# Altium footprint library Lib Marius.PcbLib: 393 footprints (part 18 of 25)
Each footprint in its own frame and in the unit in brackets; x right, y up, seen from the top. Pads: shape width x height; smd on the part's side, far side on the other; paste and mask are expansions set on the pad; w line width, h text height; cw(c..) or ccw(c..) is an arc to the next point about the centre after c.
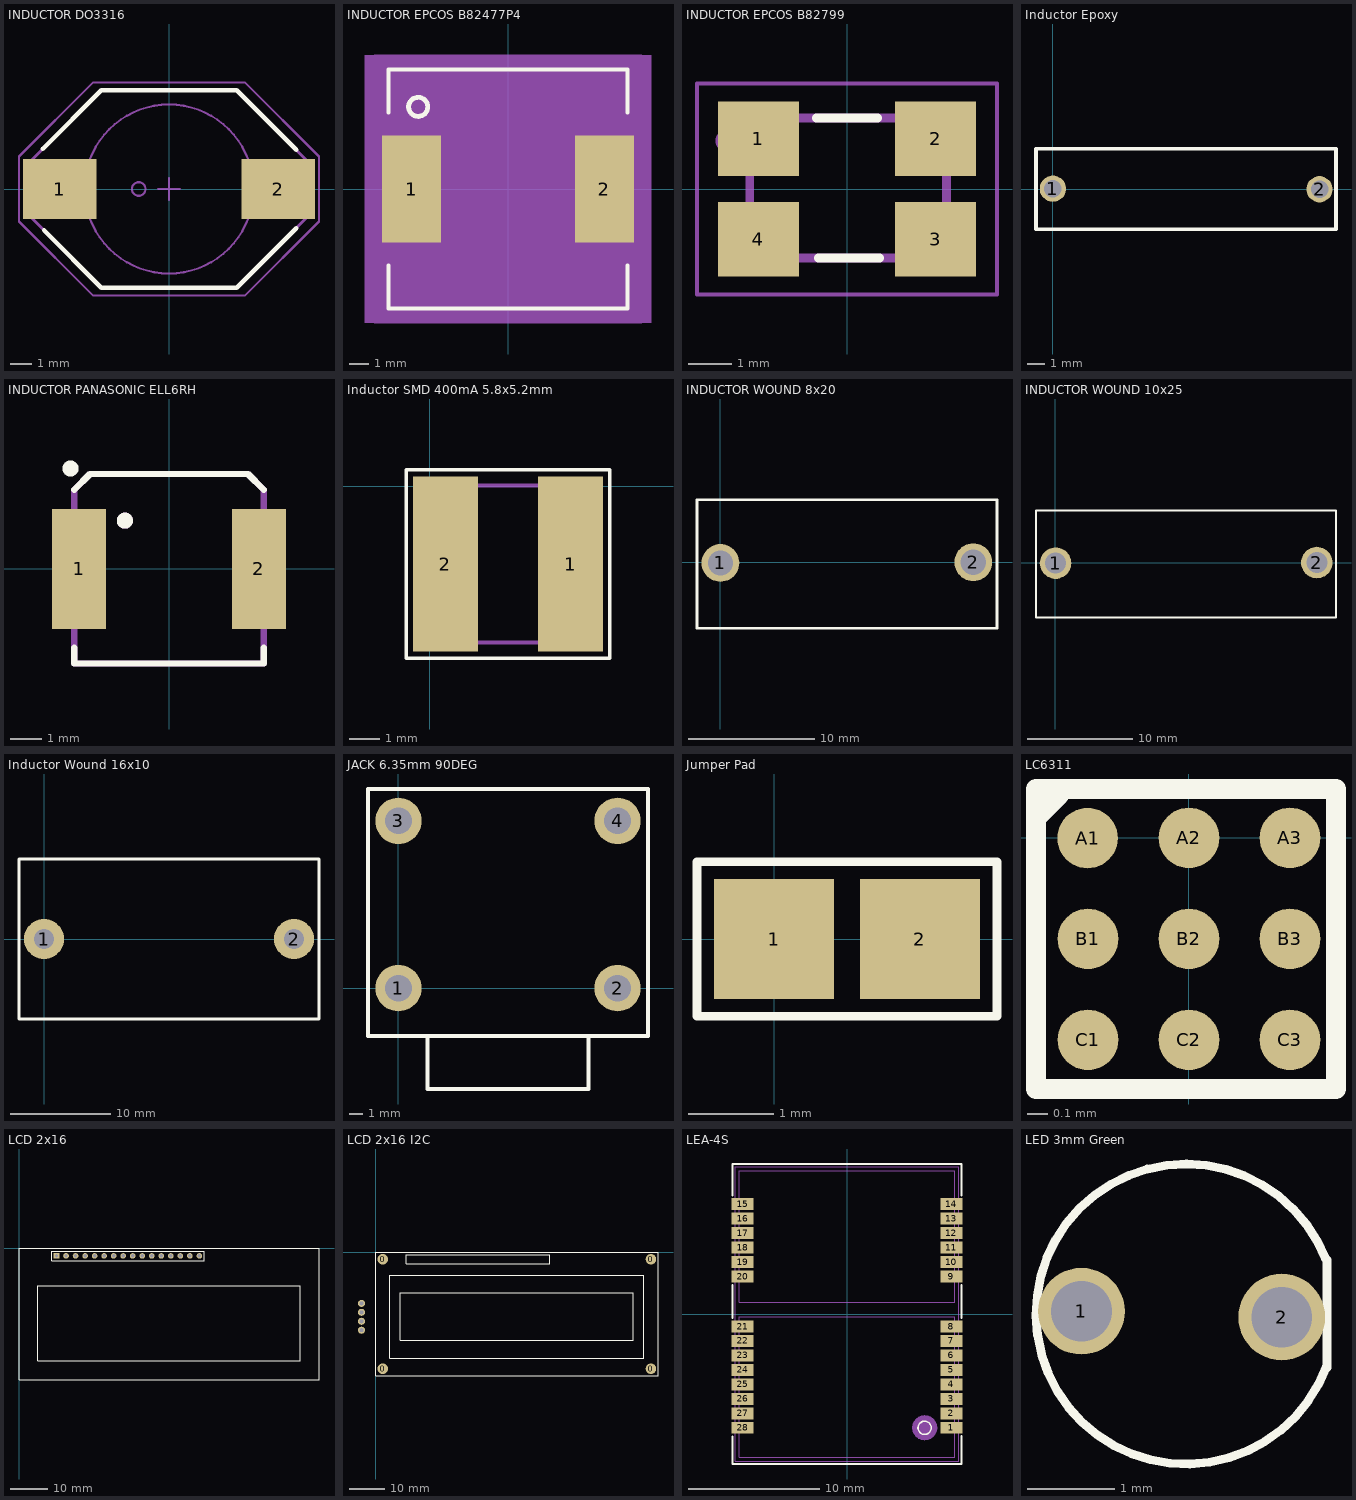
[diagram p17: the footprints below, top view; thin cyan lines are the x and y axes]

## INDUCTOR DO3316 [mm] "Power Inductor DO3316 Coilcraft"
height 1.75
pads (2):
  rect 3.42x2.79 smd: 1(-5.095,0) 2(5.095,0)
Top Overlay:
  lines w0.2: -5.874,1.873 -3.151,4.596 -2.198,4.596 3.151,4.596 5.924,1.823 ; -5.824,-1.923 -3.151,-4.596 -2.198,-4.596 2.198,-4.596 3.151,-4.596 5.924,-1.823
Mechanical 13:
  circle w0.1: c0,0 r3.937
  lines w0.102: -1.73,0 ccw(c-1.412,0) -1.412,-0.318 ccw(c-1.412,0) -1.095,0 ccw(c-1.412,0) -1.412,0.318 ccw(c-1.412,0) -1.73,0
  lines w0.127: -6.477,-1.27 -3.151,-4.596 3.151,-4.596 6.477,-1.27 6.477,1.27 3.151,4.596 -3.151,4.596 -6.477,1.27 -6.477,-1.27
Mechanical 15:
  lines w0.1: -0.5,0 0.5,0 ; 0,-0.5 0,0.5 ; -6.985,-1.515 -3.547,-4.953 3.547,-4.953 6.985,-1.515 6.985,1.515 3.547,4.953 -3.547,4.953 -6.985,1.515 -6.985,-1.515
3D body "SW3dPS-Inductor SMT DO3316.step": height 5.37, standoff 0, extent -6.605,-4.7 6.605,4.7

## INDUCTOR EPCOS B82477P4 [mm] "Epcos SMT Power inductor"
height 8.5
pads (2):
  rect 3.1x5.6 smd: 1(-5.05,0) 2(5.05,0)
Top Overlay:
  circle w0.254: c-4.7,4.3 r0.5
  lines w0.2: -6.25,-4 -6.25,-6.25 6.25,-6.25 6.25,-4 ; -6.25,4 -6.25,6.25 6.25,6.25 6.25,4
Mechanical 13:
  lines w0.2: -6.25,-6.25 -6.25,6.25 6.25,6.25 6.25,-6.25 -6.25,-6.25
Mechanical 15:
  lines w0.1: -7,-7 -7,7 7,7 7,-7 -7,-7
Mechanical 16:
  pour cut-out: -7.5,-7 7.5,-7 7.5,7 -7.5,7
3D body "epcos_B82477P4.STEP": height 8.53, standoff 0.03, extent -6.25,-6.25 6.25,6.25

## INDUCTOR EPCOS B82799 [mm] "Dataline Choke, 2x11uH 30% SMD"
height 3.2
pads (4):
  rect 1.85x1.7 smd: 1(-2.025,1.15) 2(2.025,1.15) 3(2.025,-1.15) 4(-2.025,-1.15)
Top Overlay:
  lines w0.2: -0.7,1.625 0.7,1.625 ; -0.65,-1.575 0.75,-1.575
Mechanical 13:
  circle w0.254: c-2.775,1.1 r0.106
  lines w0.2: -2.225,-1.575 -2.225,1.625 2.275,1.625 2.275,-1.575 -2.225,-1.575
Mechanical 15:
  lines w0.1: -3.429,-2.413 3.429,-2.413 3.429,2.413 -3.429,2.413 -3.429,-2.413
3D body "epcos-EIA1812.STEP": height 3.21, standoff 0.01, extent -2.225,-1.575 2.275,1.625

## Inductor Epoxy [mm] "Inductor 3A"
height 6
pads (2):
  round 1.5 hole 1: 1(0,0.032) 2(15.218,-0.001)
Top Overlay:
  lines w0.2: -0.965,-2.275 -0.965,2.303 16.158,2.303 16.158,-2.275 -0.965,-2.275
3D body "Res 2W.STEP": height 5, standoff -3, extent -0.408,-1.968 15.632,2.032

## INDUCTOR PANASONIC ELL6RH [mm] "Power Inductor ELL6RH151M"
height 2.5
pads (2):
  rect 1.7x3.8 smd: 1(-2.85,0) 2(2.85,0)
Top Overlay:
  circle w0.254: c-1.397,1.524 r0.127
  circle w0.254: c-3.119,3.175 r0.127
  lines w0.2: -3,-2.5 -3,-3 3,-3 3,-2.5 ; -3,2.5 -2.5,3 2.5,3 3,2.5
Mechanical 13:
  circle w0.254: c-1.397,1.524 r0.127
  lines w0.2: -3,-3 3,-3 ; -3,2.5 -2.5,3 ; 3,2.5 2.5,3 ; -2.5,3 2.5,3 ; -2.5,3 2.5,3
  lines w0.201: -3,-3 -3,2.5 ; 3,-3 3,2.5
3D body "PANASONIC_ELL6RH.STEP": height 2.54, standoff 0.03, extent -3,-3 3.4,3

## Inductor SMD 400mA 5.8x5.2mm [mm]
pads (2):
  rect 2.15x5.8 smd mask+0: 1(4.675,-2.575) 2(0.525,-2.575)
Top Overlay:
  lines w0.127: -0.775,-5.7 -0.775,0.55 5.975,0.55 5.975,-5.7 -0.775,-5.7
Mechanical 13:
  lines w0.127: 0,-3.875 ccw(c2.7,-2.475) 1.3,-5.175 3.9,-5.175 ccw(c2.72,-2.695) 5.2,-3.875 5.2,-3.075 cw(c5.134,-2.641) 4.7,-2.575 cw(c5.114,-2.489) 5.2,-2.075 5.2,-1.275 ccw(c2.668,-2.507) 3.9,0.025 1.3,0.025 ccw(c2.7,-2.675) 0,-1.275 0,-2.075 cw(c0.093,-2.482) 0.5,-2.575 cw(c0.056,-2.631) 0,-3.075 0,-3.875
3D body "scd-0501.stp": height 2.1, standoff 0, extent -0.297,-5.172 5.502,0.028

## INDUCTOR WOUND 8x20 [mm] "Inductor 10 Turns"
height 6
pads (2):
  round 3 hole 2: 1(0.026,-0.034) 2(20.049,0.02)
Top Overlay:
  lines w0.2: -1.828,-5.19 21.925,-5.19 21.925,4.952 -1.828,4.952 -1.828,-5.19
3D body: height 3, standoff -2, extent 19.057,-0.978 21.049,1.018
3D body: height 3, standoff -2, extent -0.966,-1.032 1.026,0.964
3D body "Inductor Wound 8x20.stp": height 8.95, standoff 1.05, extent 0.048,-3.93 20.048,3.97

## INDUCTOR WOUND 10x25 [mm] "Inductor 10 Turns"
height 6
pads (2):
  round 3 hole 2: 1(0.026,-0.034) 2(24.829,0.02)
Top Overlay:
  lines w0.2: -1.828,-5.19 -1.828,4.952 26.639,4.952 26.639,-5.19 -1.828,-5.19
3D body "Inductor Wound 10x25.stp": height 11.87, standoff 2.13, extent -0.171,-4.855 24.829,4.895
3D body: height 3, standoff -2, extent -0.966,-1.032 1.026,0.964
3D body: height 3, standoff -2, extent 23.837,-0.978 25.829,1.018

## Inductor Wound 16x10 [mm] "Inductor Coil"
height 10
pads (2):
  round 4 hole 2: 1(0,0) 2(25,0)
Top Overlay:
  lines w0.254: -2.5,-8 27.5,-8 27.5,8 -2.5,8 -2.5,-8
3D body: height 3, standoff -2, extent -0.992,-0.998 1,0.998
3D body: height 3, standoff -2, extent 24.008,-0.998 26,0.998
3D body "Inductor 16x10.stp": height 17.87, standoff 2.13, extent -0.5,-7.875 24.5,7.875

## JACK 6.35mm 90DEG [mm] "JACK 6.35mm 90DEG"
pads (4):
  round 3.5 hole 2 mask+0: 1(0,0) 2(16.5,0) 3(0,12.6)
  round 3.5 hole 2: 4(16.5,12.6)
Top Overlay:
  lines w0.3: 12.8,-3.6 14.3,-3.6 14.3,-7.6 2.2,-7.6 2.2,-3.6 13,-3.6 ; -2.3,-3.6 -2.3,15 18.8,15 18.8,-3.6 16.8,-3.6 -1.8,-3.6 -2.3,-3.6

## Jumper Pad [mm] "Jumper pads"
height 1.524
pads (2):
  rect 1.4x1.4 smd: 1(0,0) 2(1.7,0)
Top Overlay:
  lines w0.1: -0.9,-0.9 -0.9,0.9 2.6,0.9 2.6,-0.9 -0.9,-0.9

## LC6311 [mm] "Amplifier D Class"
height 0.5
pads (9):
  round 0.3 smd mask+0.05: A1(-0.502,-0.001) A2(0,0) A3(0.5,0) B1(-0.5,-0.5) B2(0,-0.5) B3(0.5,-0.5) C1(-0.5,-1) C2(0,-1) C3(0.5,-1)
Top Overlay:
  lines w0.1: -0.738,0.121 -0.734,0.121 -0.643,0.212 ; -0.757,-1.243 -0.757,0.242 0.728,0.242 0.728,-1.243 -0.757,-1.243
3D body: height 0.35, standoff 0, extent -0.742,-1.242 0.743,0.243

## LCD 2x16 [mm] "LCD 2 x 16"
pads (16):
  rect 1.5x1.5 hole 0.9: 1(10,-2)
  round 1.5 hole 0.9: 2(12.54,-2) 3(15.08,-2) 4(17.62,-2) 5(20.16,-2) 6(22.7,-2) 7(25.24,-2) 8(27.78,-2) 9(30.32,-2) 10(32.86,-2) 11(35.4,-2) 12(37.94,-2) 13(40.48,-2) 14(43.02,-2) 15(45.56,-2) 16(48.1,-2)
Top Overlay:
  lines w0.2: 8.73,-3.27 8.73,-0.73 10.635,-0.73 49.37,-0.73 49.37,-3.27 8.73,-3.27
  lines w0.25: 0,-35 0,0 80,0 80,-35 0,-35 ; 5,-30 5,-10 75,-10 75,-30 5,-30

## LCD 2x16 I2C [mm] "LCD 2 x 16 i2c"
pads (8):
  round 3 all layers, no hole: 0(2,-33) 0(2,-2) 0(78,-33) 0(78,-2)
  round 2 hole 1: 1(-4,-14.48) 2(-4,-17.02) 3(-4,-19.56) 4(-4,-22.1)
Top Overlay:
  lines w0.2: 8.73,-3.27 49.37,-3.27 49.37,-0.73 10.635,-0.73 8.73,-0.73 8.73,-3.27
  lines w0.25: 0,-35 80,-35 80,0 0,0 0,-35 ; 4,-30 76,-30 76,-6.5 4,-6.5 4,-30
  lines w0.254: 7,-25 73,-25 73,-11.5 7,-11.5 7,-25

## LEA-4S [mm]
pads (28):
  rect 1.7x0.9 smd mask+0: 1(7.94,-8.65) 2(7.94,-7.55) 3(7.94,-6.45) 4(7.94,-5.35) 5(7.94,-4.25) 6(7.94,-3.15) 7(7.94,-2.05) 8(7.94,-0.95) 9(7.94,2.85) 10(7.94,3.95) 11(7.94,5.05) 12(7.94,6.15) 13(7.94,7.25) 14(7.94,8.35) 15(-7.94,8.35) 16(-7.94,7.25) 17(-7.94,6.15) 18(-7.94,5.05) 19(-7.94,3.95) 20(-7.94,2.85) 21(-7.94,-0.95) 22(-7.94,-2.05) 23(-7.94,-3.15) 24(-7.94,-4.25) 25(-7.94,-5.35) 26(-7.94,-6.45) 27(-7.94,-7.55) 28(-7.94,-8.65)
Top Overlay:
  circle w0.127: c5.9,-8.65 r0.5
  lines w0.127: -8.7,-9.3 -8.7,-11.4 8.7,-11.4 8.7,-9.275 ; -8.7,-0.3 -8.7,2.2 ; -8.7,9 -8.7,11.4 8.7,11.4 8.7,9 ; 8.7,-0.3 8.7,2.2
Mechanical 13:
  region: 6.127,-7.734 6.143,-7.744 6.161,-7.744 6.356,-7.824 6.369,-7.837 6.387,-7.842 6.554,-7.97 6.564,-7.986 6.58,-7.996 6.708,-8.163 6.713,-8.181 6.726,-8.194 6.806,-8.389 6.806,-8.407 6.816,-8.423 6.843,-8.632 6.838,-8.65 6.843,-8.668 6.816,-8.877 6.806,-8.893 6.806,-8.911 6.726,-9.106 6.713,-9.119 6.708,-9.137 6.58,-9.304 6.564,-9.314 6.554,-9.33 6.387,-9.458 6.369,-9.463 6.356,-9.476 6.161,-9.556 6.143,-9.556 6.127,-9.566 5.918,-9.593 5.9,-9.588 5.882,-9.593 5.673,-9.566 5.657,-9.556 5.639,-9.556 5.444,-9.476 5.431,-9.463 5.413,-9.458 5.246,-9.33 5.236,-9.314 5.22,-9.304 5.092,-9.137 5.087,-9.119 5.074,-9.106 4.994,-8.911 4.994,-8.893 4.984,-8.877 4.957,-8.668 4.959,-8.659 4.956,-8.65 4.96,-8.64 4.958,-8.634 4.961,-8.626 4.959,-8.618 4.984,-8.423 4.994,-8.407 4.994,-8.389 5.074,-8.194 5.087,-8.181 5.092,-8.163 5.22,-7.996 5.236,-7.986 5.246,-7.97 5.413,-7.842 5.431,-7.837 5.444,-7.824 5.639,-7.744 5.657,-7.744 5.673,-7.734 5.882,-7.707 5.9,-7.712 5.918,-7.707
  lines w0.065: -8.5,-11.2 -8.5,11.2 8.5,11.2 8.5,-11.2 -8.5,-11.2 ; -8.2,-10.9 -8.2,-0.2 8.2,-0.2 8.2,-10.9 -8.2,-10.9 ; -8.2,0.9 -8.2,10.9 8.2,10.9 8.2,0.9 -8.2,0.9

## LED 3mm Green [mm] "LED 3mm Green"
height 0.5
pads (2):
  round 1 hole 0.7: 1(0.756,-3.423) 2(3.065,-3.491)
Top Overlay:
  lines w0.1: 3.567,-2.816 ccw(c1.961,-3.455) 3.581,-4.059 ; 3.585,-4.073 3.585,-2.834
3D body "LED 3mm Green.STEP": height 5.51, standoff -2.49, extent 0.298,-5.125 3.598,-1.836